# Altium footprint library 1_to_5_Pin.PcbLib: 133 footprints (part 2 of 9)
Each footprint in its own frame and in the unit in brackets; x right, y up, seen from the top. Pads: shape width x height; smd on the part's side, far side on the other; paste and mask are expansions set on the pad; w line width, h text height; cw(c..) or ccw(c..) is an arc to the next point about the centre after c.
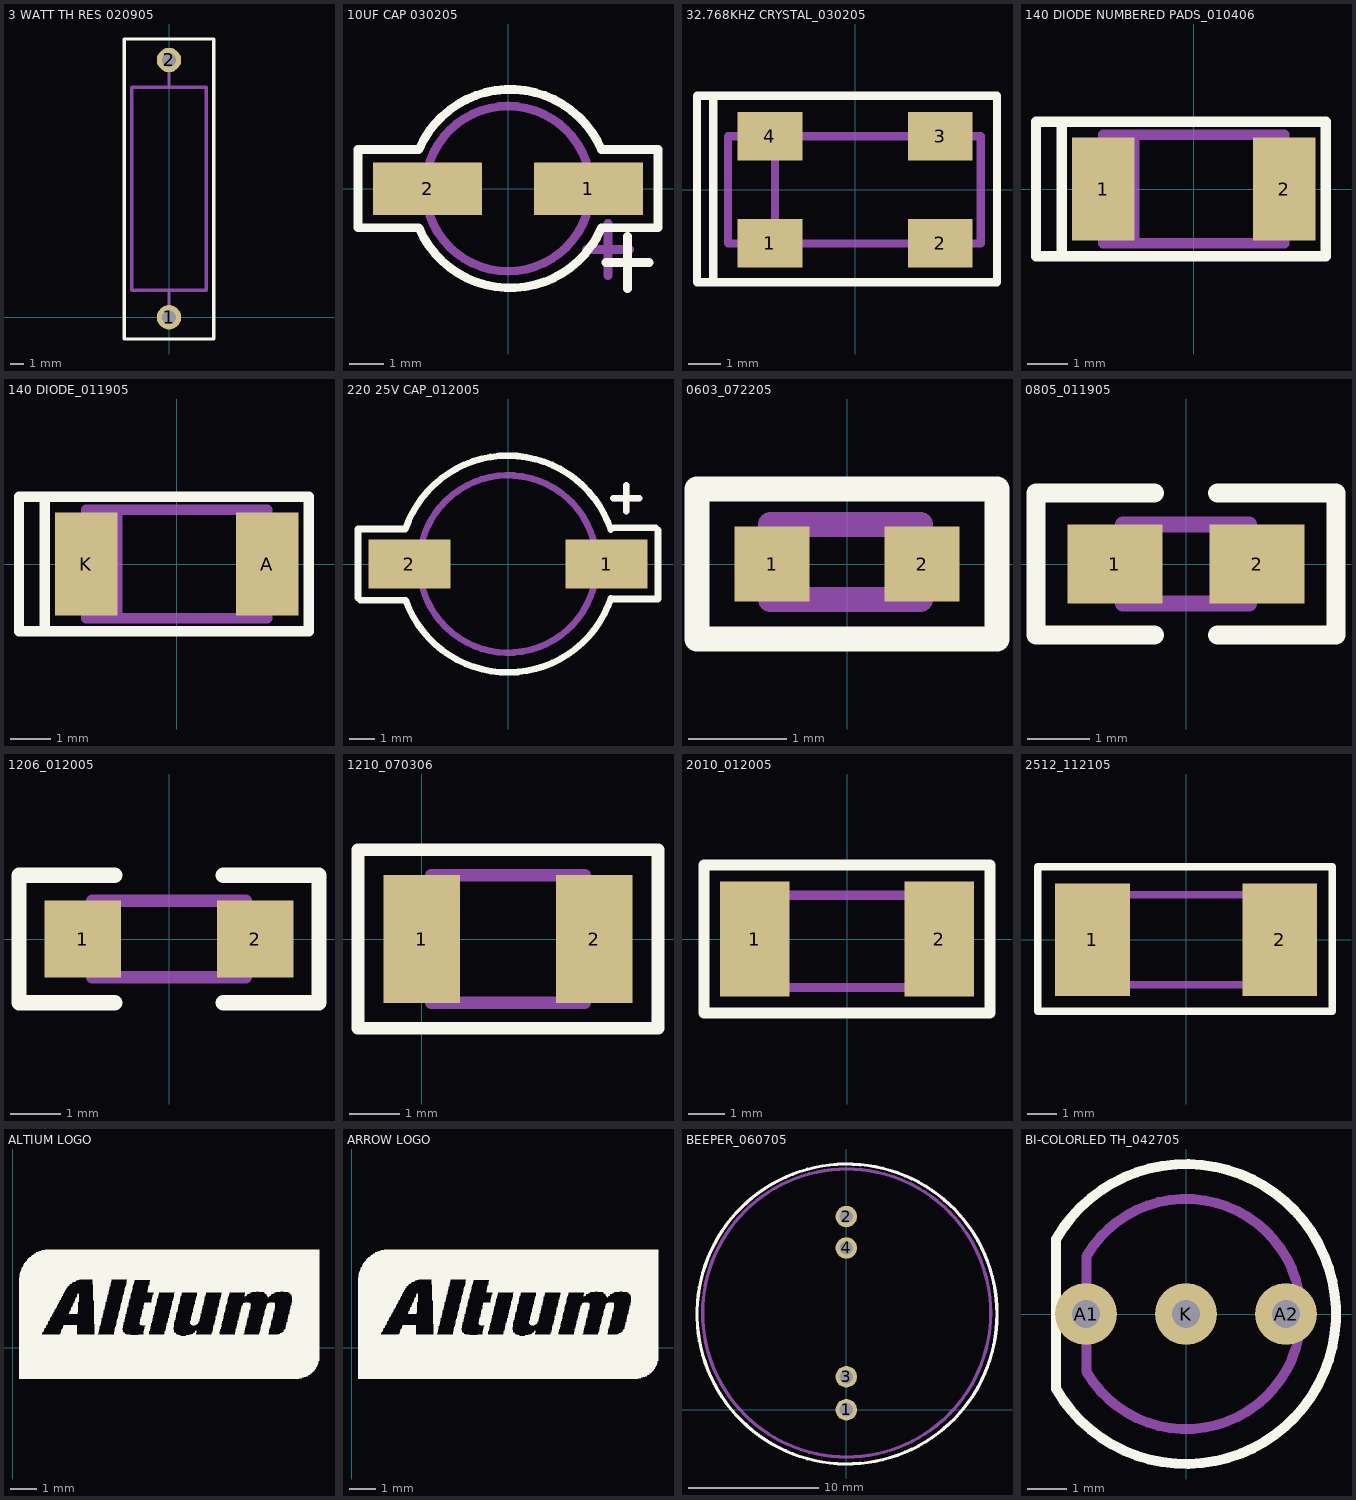
[diagram p1: the footprints below, top view; thin cyan lines are the x and y axes]

## 3 WATT TH RES 020905 [mm] "TH"
height 5.715
pads (2):
  round 1.8 hole 1: 1(0,0) 2(0,19)
Top Overlay:
  lines w0.254: -3.3,-1.6 -3.3,20.55 -1.4,20.55 3.3,20.55 3.3,-1.6 -3.3,-1.6
Assembly Outline:
  lines w0.254: -2,2 2,2 ; -2,17 2,17 ; -1.4,2 1.4,2 0,2 0,0 ; 0,19 0,17 -2.75,17 -2.75,2 2.75,2 2.75,17 2,17 ; 2,17 2,17 ; 2,17 2,17
Assembly Designator:
  text ".Designator" at -0.508,5.588 h1.52
Assembly Comment:
  text ".Comment" at 1.524,5.588 h1.52

## 10UF CAP 030205 [mil] "SMT"
height 300
pads (2):
  rect 125x60 smd: 1(92.5,0) 2(-92.5,0)
Top Overlay:
  lines w10: 112.5,-85 137.5,-85 162.5,-85 ; 137.5,-115 137.5,-55 ; -172.5,-45 -172.5,45 -102.5,45 cw(c2.5,0) 107.5,45 172.5,45 172.5,-45 107.5,-45 cw(c2.5,0) -102.5,-45 -172.5,-45
Assembly Outline:
  circle w10: c0,0 r95
  lines w10: -95,-20 -120,-20 -120,20 -95,20 ; 90,-70 140,-70 ; 95,-20 120,-20 120,20 95,20 ; 115,-100 115,-40
Assembly Designator:
  text ".Designator" at -40,-15 h40
Assembly Comment:
  text ".Comment" at -105,-150 h40

## 32.768KHZ CRYSTAL_030205 [mil] "SMT"
height 100
pads (4):
  rect 80x60 smd: 1(-105,-66) 2(105,-66) 3(105,66) 4(-105,66)
Top Overlay:
  lines w10: -175,-114 175,-114 175,116 85,116 -175,116 ; -175,-114 -175,116 ; -175,-114 -195,-114 -195,116 -175,116
Assembly Outline:
  lines w10: -99,-66 -99,66 ; -97,-66 -97,-76 -117,-76 -117,-66 -157,-66 ; -97,66 -97,76 -117,76 -117,66 -157,66 ; 95,-66 95,-76 115,-76 115,-66 155,-66 ; 95,66 95,76 115,76 115,66 155,66 ; -157,-66 155,-66 ; -157,-66 -157,66 ; -157,66 155,66 ; 155,-66 155,66
Assembly Designator:
  text ".Designator" at -115,-15 h40
Assembly Comment:
  text ".Comment" at -160,-130 h40

## 140 DIODE NUMBERED PADS_010406 [mil] "SMT"
height 80
pads (2):
  rect 60x100 smd: 1(-87.5,0) 2(87.5,0)
Top Overlay:
  lines w10: -127.5,-65 -152.5,-65 -152.5,65 -127.5,65 ; -127.5,-65 -127.5,65 ; -127.5,-65 127.5,-65 127.5,65 -77.5,65 -127.5,65
Assembly Outline:
  lines w10: -57.5,-52.5 -57.5,52.5 ; -87.5,-52.5 -87.5,52.5 87.5,52.5 87.5,-52.5 -87.5,-52.5
Assembly Designator:
  text ".Designator" at -30,-20 h40
Assembly Comment:
  text ".Comment" at -100,65 h50

## 140 DIODE_011905 [mil] "SMT"
height 80
pads (2):
  rect 60x100 smd: A(87.5,0) K(-87.5,0)
Top Overlay:
  lines w10: -127.5,-65 -152.5,-65 -152.5,65 -127.5,65 ; -127.5,-65 -127.5,65 ; -127.5,-65 127.5,-65 127.5,65 -77.5,65 -127.5,65
Assembly Outline:
  lines w10: -57.5,-52.5 -57.5,52.5 ; -87.5,-52.5 -87.5,52.5 87.5,52.5 87.5,-52.5 -87.5,-52.5
Assembly Designator:
  text ".Designator" at -30,-20 h40
Assembly Comment:
  text ".Comment" at -100,65 h50

## 220 25V CAP_012005 [mil] "SMT"
height 300
pads (2):
  rect 125x75 smd: 1(150,0) 2(-150,0)
Top Overlay:
  lines w10: 155.57,55.2 224.8,55.2 228.32,51.68 228.32,-53.32 156.15,-53.32 ; 156.53,52.18 ccw(c0,0) -156.15,53.32 -228.32,53.32 -228.32,-51.68 -224.8,-55.2 -155.57,-55.2 ccw(c0,0) 156.6,-52.2 ; 160,100 200,100 ; 180,80 180,120
Assembly Outline:
  circle w10: c0,0 r135
  lines w10: 160,100 200,100 ; 180,80 180,120
Assembly Designator:
  text ".Designator" at -65,40 h40
Assembly Comment:
  text ".Comment" at -115,-10 h40

## 0603_072205 [mil] "SM"
height 20
pads (2):
  rect 30x30 smd: 1(-30,0) 2(30,0)
Top Overlay:
  lines w10: -60,-30 60,-30 60,30 -60,30 -60,0 -60,-30
Assembly Outline:
  lines w10: -30.53,-14.25 -30.53,15.75 29.47,15.75 29.47,-14.25 -30.53,-14.25
Assembly Designator:
  text ".Designator" at -28.54,-13.78 h30
Assembly Comment:
  text ".Comment" at -55.12,-73.82 h40

## 0805_011905 [mil] "SMT"
height 26
pads (2):
  rect 60x50 smd: 1(-45,0) 2(45,0)
Top Overlay:
  lines w12: -20,-45 -95,-45 -95,45 -20,45 ; 20,-45 95,-45 95,45 20,45
Assembly Outline:
  lines w10: -40,-25 40,-25 40,25 -40,25 -40,-25
Assembly Designator:
  text ".Designator" at -58.07,43.31 h40
Assembly Comment:
  text ".Comment" at -77.76,-85.63 h40

## 1206_012005 [mil] "SMT"
height 25
pads (2):
  rect 60x60 smd: 1(-67.5,0) 2(67.5,0)
Top Overlay:
  lines w12: -42.5,-50 -117.5,-50 -117.5,50 -42.5,50 ; 42.5,-50 117.5,-50 117.5,50 42.5,50
Assembly Outline:
  lines w10: -60,-30 -60,30 60,30 60,-30 -60,-30
Assembly Designator:
  text ".Designator" at -50,40 h40
Assembly Comment:
  text ".Comment" at -50,-80 h40

## 1210_070306 [mil] "SMT"
height 39.37
pads (2):
  rect 60x100 smd: 1(0,0) 2(135,0)
Top Overlay:
  lines w10: -50,-70 -50,70 110,70 185,70 185,-70 110,-70 -50,-70
Assembly Outline:
  lines w10: 67.5,50 7.5,50 ; 127.5,0 127.5,-50 ; 7.5,50 127.5,50 127.5,-50 ; 7.5,50 7.5,-50 127.5,-50
Assembly Designator:
  text ".Designator" at 29.72,-19.06 h40
Assembly Comment:
  text ".Comment" at 19.68,-111.22 h40

## 2010_012005 [mil] "SMT"
height 50
pads (2):
  rect 75x125 smd: 1(-100,0) 2(100,0)
Top Overlay:
  lines w12: -155,-80 -155,80 -60,80 155,80 155,-80 -155,-80
Assembly Outline:
  lines w10: -100,-52.5 100,-52.5 100,47.5 -100,47.5 -100,-52.5
Assembly Designator:
  text ".Designator" at -55,-15 h40
Assembly Comment:
  text ".Comment" at -150,-105 h40

## 2512_112105 [mil] "SMT"
height 50
pads (2):
  rect 100x150 smd: 1(-125,0) 2(125,0)
Top Overlay:
  lines w10: -197.5,-95 -197.5,97.5 195,97.5 195,-95 -197.5,-95
Assembly Outline:
  lines w10: -125,-60 125,-60 125,60 -125,60 -125,-60
Assembly Designator:
  text ".Designator" at -37.4,-17.72 h40
Assembly Comment:
  text ".Comment" at -172.24,-137.8 h40

## ALTIUM LOGO [mil] "LOGO"
Top Overlay:
  drawing of 845 lines, arcs and shapes, not listed

## ARROW LOGO [mil] "LOGO"
Top Overlay:
  drawing of 845 lines, arcs and shapes, not listed

## BEEPER_060705 [mil] "TH"
height 200
pads (4):
  round 65 hole 40: 1(0,0) 2(0,585) 3(0,100) 4(0,490)
Top Overlay:
  circle w10: c2,290 r454.09
Assembly Outline:
  circle w10: c1,293 r436
Assembly Designator:
  text ".Designator" at -50,280 h40
Assembly Comment:
  text ".Comment" at -155,210 h40

## BI-COLORLED TH_042705 [mil] "TH"
height 450
pads (3):
  round 62 hole 28: A1(-100,0) A2(100,0) K(0,0)
Top Overlay:
  lines w10: -130,-75 -130,75 ; -129.9,-75 ccw(c0,0) -129.9,75
Assembly Outline:
  lines w10: -99.69,-57.55 ccw(c0,0) -99.69,57.55 -99.69,-57.55
Assembly Designator:
  text ".Designator" at -45,45 h40
Assembly Comment:
  text ".Comment" at -95,-175 h40